# Altium footprint library Termometr_BLE_lib_pcb.PcbLib: 10 footprints
Each footprint in its own frame and in the unit in brackets; x right, y up, seen from the top. Pads: shape width x height; smd on the part's side, far side on the other; paste and mask are expansions set on the pad; w line width, h text height; cw(c..) or ccw(c..) is an arc to the next point about the centre after c.
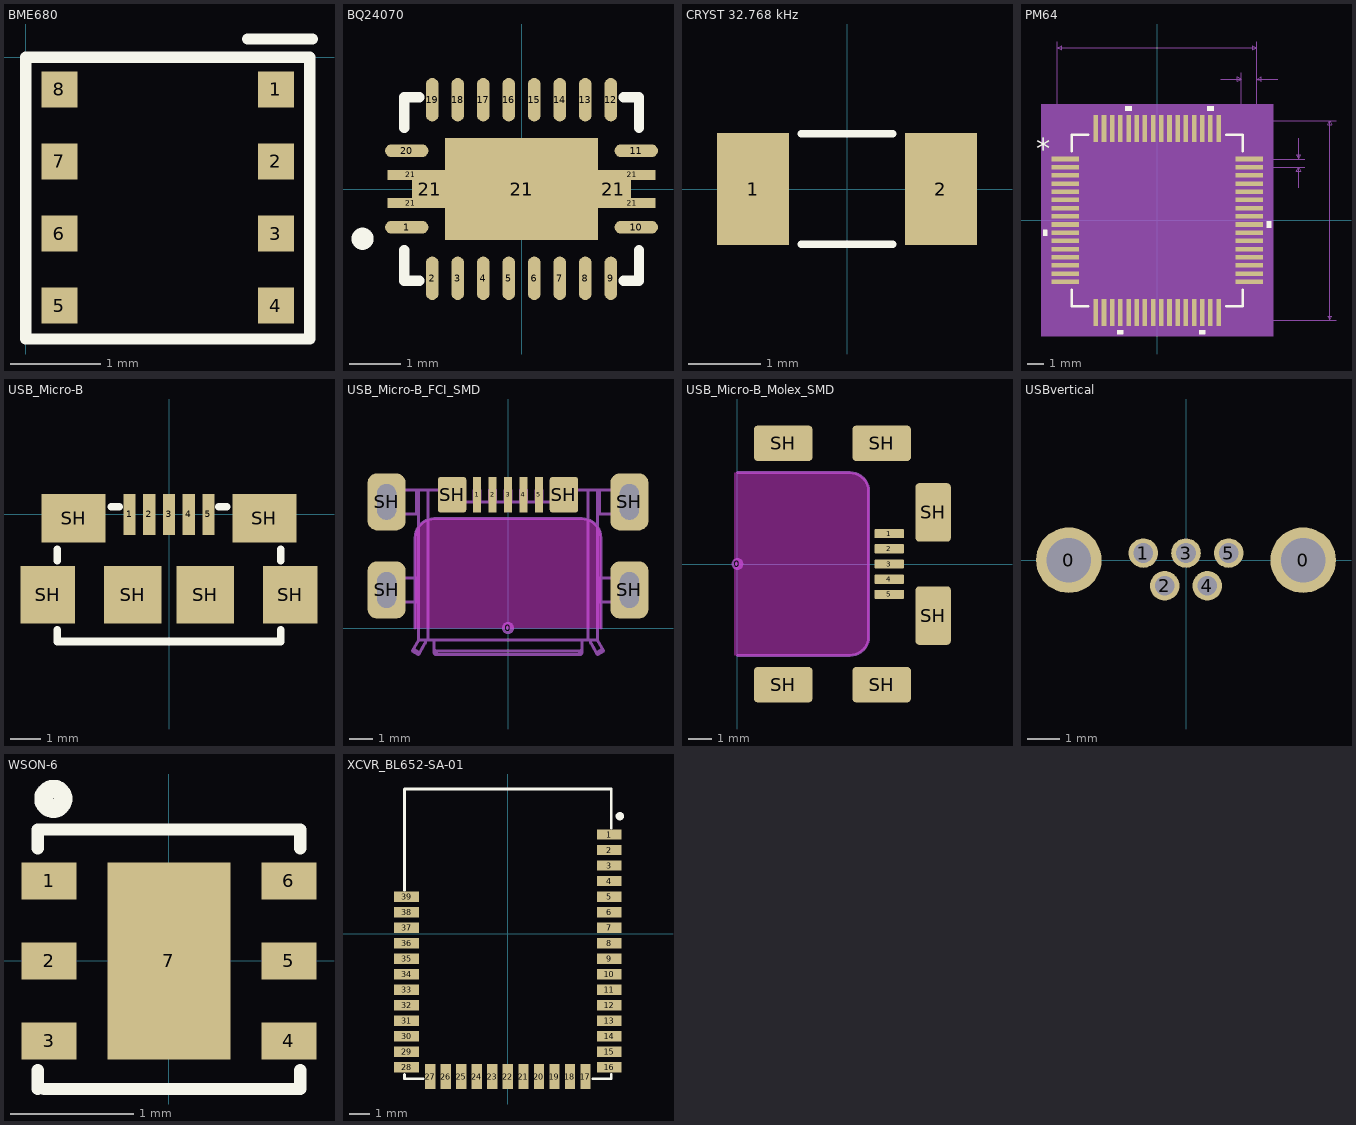
[diagram p0: the footprints below, top view; thin cyan lines are the x and y axes]

## BME680 [mm]
pads (8):
  rect 0.4x0.4 smd: 1(2.772,-0.355) 2(2.772,-1.155) 3(2.772,-1.955) 4(2.772,-2.755) 5(0.372,-2.755) 6(0.372,-1.955) 7(0.372,-1.155) 8(0.372,-0.355)
Top Overlay:
  lines w0.127: 2.46,0.203 3.175,0.203 ; 0,-3.124 3.15,-3.124 3.15,0 0,0 0,-3.124

## BQ24070 [mm]
pads (27):
  oval 0.85x0.25 smd: 1(-2.25,-0.75) 10(2.25,-0.75) 11(2.25,0.75) 20(-2.25,0.75)
  oval 0.25x0.85 smd: 2(-1.75,-1.75) 3(-1.25,-1.75) 4(-0.75,-1.75) 5(-0.25,-1.75) 6(0.25,-1.75) 7(0.75,-1.75) 8(1.25,-1.75) 9(1.75,-1.75) 12(1.75,1.75) 13(1.25,1.75) 14(0.75,1.75) 15(0.25,1.75) 16(-0.25,1.75) 17(-0.75,1.75) 18(-1.25,1.75) 19(-1.75,1.75)
  rect 0.9x0.2 smd: 21(-2.175,-0.275) 21(-2.175,0.275) 21(2.175,-0.275) 21(2.175,0.275)
  rect 0.7x0.75 smd: 21(-1.8,0) 21(1.8,0)
  rect 3x2 smd: 21(0,0)
Top Overlay:
  circle w0.254: c-3.115,-0.975 r0.09
  lines w0.2: -2.3,-1.2 -2.3,-1.8 -2,-1.8 ; -2.3,1.2 -2.3,1.8 -2,1.8 ; 2,-1.8 2.3,-1.8 2.3,-1.2 ; 2,1.8 2.3,1.8 2.3,1.2

## CRYST 32.768 kHz [mm]
pads (2):
  rect 1x1.55 smd: 1(-1.3,0) 2(1.3,0)
Top Overlay:
  lines w0.102: -0.635,-0.762 0.635,-0.762 ; -0.635,0.762 0.635,0.762

## PM64 [mil]
pads (64):
  rect 65.5x11 smd: 1(-221.25,147.64) 2(-221.25,127.95) 3(-221.25,108.27) 4(-221.25,88.58) 5(-221.25,68.9) 6(-221.25,49.21) 7(-221.25,29.53) 8(-221.25,9.84) 9(-221.25,-9.84) 10(-221.25,-29.53) 11(-221.25,-49.21) 12(-221.25,-68.9) 13(-221.25,-88.58) 14(-221.25,-108.27) 15(-221.25,-127.95) 16(-221.25,-147.64) 33(221.25,-147.64) 34(221.25,-127.95) 35(221.25,-108.27) 36(221.25,-88.58) 37(221.25,-68.9) 38(221.25,-49.21) 39(221.25,-29.53) 40(221.25,-9.84) 41(221.25,9.84) 42(221.25,29.53) 43(221.25,49.21) 44(221.25,68.9) 45(221.25,88.58) 46(221.25,108.27) 47(221.25,127.95) 48(221.25,147.64)
  rect 11x65.5 smd: 17(-147.64,-221.25) 18(-127.95,-221.25) 19(-108.27,-221.25) 20(-88.58,-221.25) 21(-68.9,-221.25) 22(-49.21,-221.25) 23(-29.53,-221.25) 24(-9.84,-221.25) 25(9.84,-221.25) 26(29.53,-221.25) 27(49.21,-221.25) 28(68.9,-221.25) 29(88.58,-221.25) 30(108.27,-221.25) 31(127.95,-221.25) 32(147.64,-221.25) 49(147.64,221.25) 50(127.95,221.25) 51(108.27,221.25) 52(88.58,221.25) 53(68.9,221.25) 54(49.21,221.25) 55(29.53,221.25) 56(9.84,221.25) 57(-9.84,221.25) 58(-29.53,221.25) 59(-49.21,221.25) 60(-68.9,221.25) 61(-88.58,221.25) 62(-108.27,221.25) 63(-127.95,221.25) 64(-147.64,221.25)
Top Overlay:
  region: -61.4,264 -76.4,264 -76.4,274 -61.4,274
  region: 135.45,264 120.45,264 120.45,274 135.45,274
  region: 264,-2.34 274,-2.34 274,-17.34 264,-17.34
  region: 115.77,-264 100.77,-264 100.77,-274 115.77,-274
  region: -81.08,-264 -96.08,-264 -96.08,-274 -81.08,-274
  region: -264,-22.03 -274,-22.03 -274,-37.03 -264,-37.03
  lines w6: -206,-166.24 -206,-206 -166.24,-206 ; -206,166.24 -206,206 -166.24,206 ; 166.24,-206 206,-206 206,-166.24 ; 166.24,206 206,206 206,166.24
  text "*" at -291.5,147.48 h50
Mechanical 5:
  region: 279,-279 -279,-279 -279,279 279,279
Mechanical 7:
  lines w1: -240,147.64 -240,430 ; 147.64,-240 430,-240 ; 147.64,240 430,240 ; 152.5,340 202.5,340 ; 202.5,147.64 202.5,355 ; 221.25,127.95 355,127.95 ; 221.25,147.64 355,147.64 ; 240,355 240,147.64 240,430 ; 290,340 240,340 ; 340,77.95 340,127.95 ; 340,197.64 340,147.64 ; -240,415 -230,410 -230,420 -240,415 ; -240,415 240,415 ; 202.5,340 192.5,335 192.5,345 202.5,340 ; 240,340 250,335 250,345 240,340 ; 240,415 230,410 230,420 240,415 ; 340,127.95 345,117.95 335,117.95 340,127.95 ; 340,147.64 345,157.64 335,157.64 340,147.64 ; 415,-240 420,-230 410,-230 415,-240 ; 415,-240 415,240 ; 415,240 420,230 410,230 415,240
  text "0.48in/12.192mm" at 435,-12.5 h25
  text "0.48in/12.192mm" at -93.75,435 h25
  text "0.03in/0.762mm" at 133.75,360 h25
  text "0.02in/0.5mm" at 360,125.3 h25
  text "Alt 2 Padstyle: OX90Y60D30P" at -337.5,-790 h50
  text "Alt 1 Padstyle: OX60Y90D30P" at -337.5,-730 h50
  text "Default Vert Padstyle: RX11Y65p5D0T" at -437.5,-550 h50
  text "Default Horiz Padstyle: RX11Y65p5D0T" at -450,-490 h50
Mechanical 13:
  drawing of 261 lines, arcs and shapes, not listed
  text "*" at -198.5,132.48 h50
Mechanical 15:
  region: -167.64,-211 -211,-211 -211,-167.64 -265.5,-167.64 -265.5,167.64 -211,167.64 -211,211 -167.64,211 -167.64,265.5 167.64,265.5 167.64,211 211,211 211,167.64 265.5,167.64 265.5,-167.64 211,-167.64 211,-211 167.64,-211 167.64,-265.5 -167.64,-265.5
  lines w6: -265.5,-167.64 -265.5,167.64 -211,167.64 -211,211 -167.64,211 -167.64,265.5 167.64,265.5 167.64,211 211,211 211,167.64 265.5,167.64 265.5,-167.64 211,-167.64 211,-211 167.64,-211 167.64,-265.5 -167.64,-265.5 -167.64,-211 -211,-211 -211,-167.64 -265.5,-167.64
3D body: height 10, standoff 0, extent 0,0 10,10

## USB_Micro-B [mm]
height 1.2
pads (11):
  rect 0.4x1.35 smd: 1(-1.3,0) 2(-0.65,0) 3(0,0) 4(0.65,0) 5(1.3,0)
  rect 1.8x1.9 smd: SH(-4,-2.65) SH(4,-2.65)
  rect 2.1x1.6 smd: SH(-3.15,-0.127) SH(3.15,-0.127)
  rect 1.9x1.9 smd: SH(-1.2,-2.65) SH(1.2,-2.65)
Top Overlay:
  lines w0.254: -3.683,-3.81 -3.683,-4.191 3.683,-4.191 3.683,-3.81 ; -3.683,-1.524 -3.683,-1.143 ; -1.905,0.254 -1.651,0.254 ; 1.651,0.254 1.905,0.254 ; 3.683,-1.524 3.683,-1.143

## USB_Micro-B_FCI_SMD [mm]
height 2.286
pads (12):
  round 0.508 on Mech15: 0(0,0)
  rrect20% 0.35x1.5 smd: 1(-1.3,5.6) 2(-0.65,5.6) 3(0,5.6) 4(0.65,5.6) 5(1.3,5.6)
  rrect50% 1.6x2.4 hole 0.8 slot 1.5 at 90 deg: SH(-5.1,1.6) SH(-5.1,5.3) SH(5.1,1.6) SH(5.1,5.3)
  rrect20% 1.2x1.5 smd: SH(-2.35,5.6) SH(2.35,5.6)
Keep-Out Layer:
  board cut-out: -3.9,0 -3.9,3.797 -3.9,3.875 -3.869,4.03 -3.809,4.175 -3.721,4.307 -3.61,4.418 -3.479,4.505 -3.333,4.566 -3.179,4.597 -3.1,4.597 3.1,4.597 3.179,4.597 3.333,4.566 3.479,4.505 3.61,4.418 3.721,4.307 3.809,4.175 3.869,4.03 3.9,3.875 3.9,3.797 3.9,0
Mechanical 13:
  lines w0.127: -4.85,1.1 -4.85,2.1 ; -4.85,4.8 -4.85,5.8 ; -3.97,-0.881 -3.71,-1.031 ; -3.85,1.1 -3.85,2.1 ; -3.85,4.8 -3.85,5.8 ; -3.75,1.1 -5.25,1.1 -5.25,2.1 -3.75,2.1 ; -3.75,4.8 -5.25,4.8 -5.25,5.8 -2.577,5.8 cw(c-2.577,5.6) -2.443,5.748 -2.007,5.352 ccw(c-1.873,5.5) -1.873,5.3 1.873,5.3 ccw(c1.873,5.5) 2.007,5.352 2.443,5.748 cw(c2.577,5.6) 2.577,5.8 5.25,5.8 5.25,4.8 3.75,4.8 ; -3.75,5.8 -3.75,-0.5 ; -3.45,-0.5 cw(c-3.75,-0.501) -3.49,-0.651 -3.76,-1.118 -4.02,-0.968 -3.75,-0.5 ; -3.35,-0.5 -3.35,5.8 ; -3.1,-0.881 ccw(c-3.006,-0.874) -3,-0.968 ; -2.526,5.793 -2.526,5.8 ; -2.229,5.553 ccw(c-2.275,5.8) -2.024,5.8 -1.825,5.8 -1.825,5.3 ; -1.425,5.3 -1.425,5.8 -1.175,5.8 -1.175,5.3 ; -0.775,5.3 -0.775,5.8 -0.525,5.8 -0.525,5.3 ; -0.125,5.3 -0.125,5.8 0.125,5.8 0.125,5.3 ; 0.525,5.3 0.525,5.8 0.775,5.8 0.775,5.3 ; 1.175,5.3 1.175,5.8 1.425,5.8 1.425,5.3 ; 1.825,5.3 1.825,5.8 2.024,5.8 ccw(c2.275,5.8) 2.229,5.553 ; 2.526,5.793 2.526,5.8 ; 3.1,-0.881 cw(c3.006,-0.874) 3,-0.968 ; 3.35,-0.5 3.35,5.8 ; 3.45,-0.5 ccw(c3.75,-0.501) 3.49,-0.651 3.76,-1.118 4.02,-0.968 3.75,-0.5 ; 3.71,-1.031 3.97,-0.881 ; 3.75,1.1 5.25,1.1 5.25,2.1 3.75,2.1 ; 3.75,5.8 3.75,-0.5 ; 3.85,1.1 3.85,2.1 ; 3.85,4.8 3.85,5.8 ; 4.85,1.1 4.85,2.1 ; 4.85,4.8 4.85,5.8 ; -3.75,-0.5 -3.1,-0.5 ; -3.1,-0.5 -3.1,-1.031 ccw(c-3.006,-1.024) -3,-1.118 ; -3.1,-0.5 3.1,-0.501 ; -3,-1.118 -3,-0.968 ; -3,-1.118 3,-1.118 ; -3,-0.968 3,-0.968 ; 3,-1.118 ccw(c3.006,-1.024) 3.1,-1.031 3.1,-0.5 ; 3,-1.118 3,-0.968 ; 3.1,-0.5 3.75,-0.5
Mechanical 15:
  lines w0.127: -3.9,0 -3.9,3.797 cw(c-3.1,3.797) -3.1,4.597 3.1,4.597 cw(c3.1,3.797) 3.9,3.797 3.9,0
3D body "Micro USB B-type mid-mount FCI.STEP": height 2.15, standoff -0.92, extent -5.25,-1.118 5.25,5.8

## USB_Micro-B_Molex_SMD [mm]
height 1.2
pads (12):
  round 0.508 on Mech15: 0(0,0)
  rrect20% 1.25x0.4 smd: 1(6.475,1.3) 2(6.475,0.65) 3(6.475,0) 4(6.475,-0.65) 5(6.475,-1.3)
  rrect20% 2.5x1.5 smd: SH(1.95,-5.15) SH(1.95,5.15) SH(6.15,-5.15) SH(6.15,5.15)
  rrect20% 1.5x2.5 smd: SH(8.35,-2.2) SH(8.35,2.2)
Top Solder:
  rectangle: 5.842,-1.27 7.112,1.27
Keep-Out Layer:
  board cut-out: -0.127,3.9 4.8,3.9 4.879,3.9 5.033,3.869 5.179,3.809 5.31,3.721 5.421,3.61 5.509,3.479 5.569,3.333 5.6,3.179 5.6,3.1 5.6,-3.1 5.6,-3.179 5.569,-3.333 5.509,-3.479 5.421,-3.61 5.31,-3.721 5.179,-3.809 5.033,-3.869 4.879,-3.9 4.8,-3.9 -0.127,-3.9
Mechanical 13:
  lines w0.127: 0,-3.9 4.8,-3.9 ccw(c4.8,-3.1) 5.6,-3.1 5.6,3.1 ccw(c4.8,3.1) 4.8,3.9 0,3.9

## USBvertical [mm]
pads (7):
  round 2 hole 1.35: 0(-3.575,0) 0(3.575,0)
  round 0.9 hole 0.6: 1(-1.3,0.22) 2(-0.65,-0.78) 3(0,0.22) 4(0.65,-0.78) 5(1.3,0.22)

## WSON-6 [mm]
pads (7):
  rect 0.45x0.3 smd: 1(-0.975,0.65) 2(-0.975,0) 3(-0.975,-0.65) 4(0.975,-0.65) 5(0.975,0) 6(0.975,0.65)
  rect 1x1.6 smd: 7(0,0)
Top Overlay:
  lines w0.1: -1.067,-1.041 -1.067,-0.889 ; -1.067,0.914 -1.067,1.067 1.067,1.067 1.067,0.914 ; -1.016,-1.041 1.067,-1.041 1.067,-0.889
  lines w0.15: -1.02,1.314 cw(c-0.94,1.316) -1.019,1.305

## XCVR_BL652-SA-01 [mm]
pads (39):
  rect 1.2x0.5 smd: 1(4.9,4.8) 2(4.9,4.05) 3(4.9,3.3) 4(4.9,2.55) 5(4.9,1.8) 6(4.9,1.05) 7(4.9,0.3) 8(4.9,-0.45) 9(4.9,-1.2) 10(4.9,-1.95) 11(4.9,-2.7) 12(4.9,-3.45) 13(4.9,-4.2) 14(4.9,-4.95) 15(4.9,-5.7) 16(4.9,-6.45) 28(-4.9,-6.45) 29(-4.9,-5.7) 30(-4.9,-4.95) 31(-4.9,-4.2) 32(-4.9,-3.45) 33(-4.9,-2.7) 34(-4.9,-1.95) 35(-4.9,-1.2) 36(-4.9,-0.45) 37(-4.9,0.3) 38(-4.9,1.05) 39(-4.9,1.8)
  rect 0.5x1.2 smd: 17(3.75,-6.9) 18(3,-6.9) 19(2.25,-6.9) 20(1.5,-6.9) 21(0.75,-6.9) 22(0,-6.9) 23(-0.75,-6.9) 24(-1.5,-6.9) 25(-2.25,-6.9) 26(-3,-6.9) 27(-3.75,-6.9)
Top Overlay:
  circle w0.2: c5.409,5.686 r0.1
  lines w0.127: -5,-6.8 -5,-7 -4.1,-7 ; -5,2.1 -5,7 5,7 5,5.1 ; 4.1,-7 5,-7 5,-6.8